# Altium schematic symbol library SCH - SENSOR- LEM - HC5FW.SCHLIB: 1 symbol
Pins are listed as number, name and electrical type; pins without a type are passive.

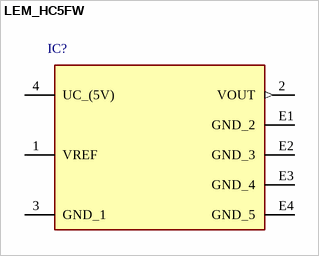
[diagram p0: symbol LEM_HC5FW]

## LEM_HC5FW
designator IC?
Current Sensor; Manufacturer: LEM; Datasheet Link: https://www.lem.com/sites/default/files/products_datasheets/cksr_series.pdf; Height: 16mm; Mounting Technology: THT
pins: 1 VREF, 2 VOUT (out), 3 GND_1, 4 UC_(5V), E1 GND_2, E2 GND_3, E3 GND_4, E4 GND_5